# EAGLE library part SM200 (library 0_jc-custom-eagle6)
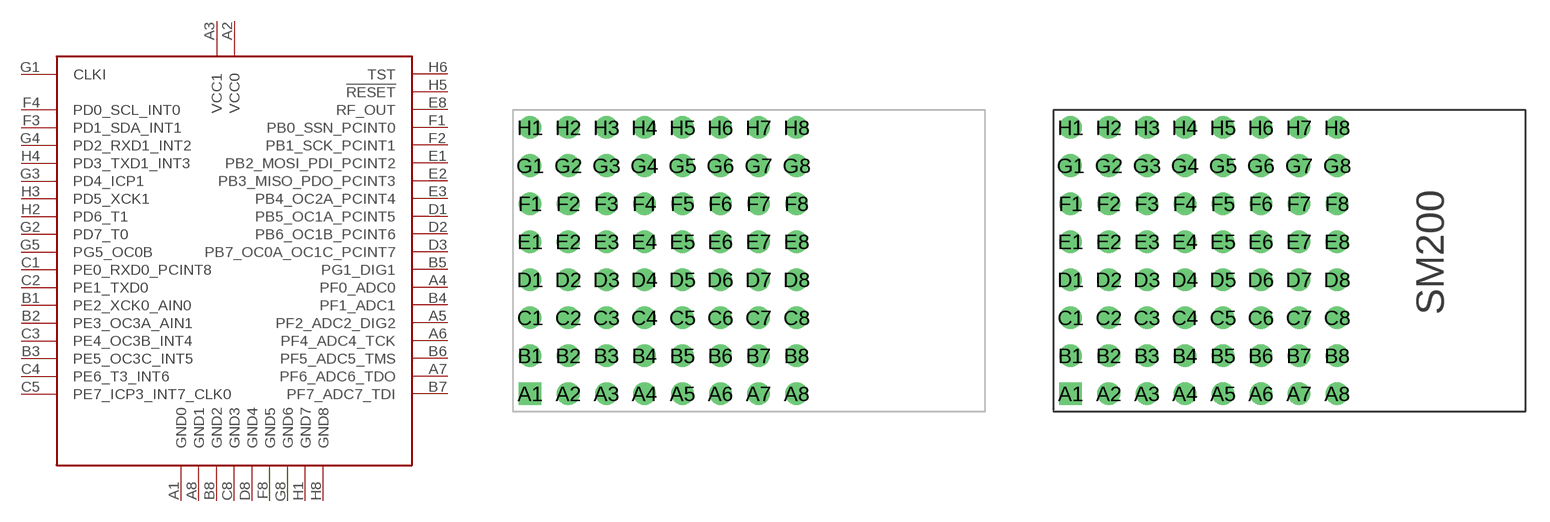
[diagram p27: symbol with the pads of SM200; footprints SM200, SM200-SILK]

Designator prefix -

## SM200P81  [SM200]
A1  GND0
A2  VCC0
A3  VCC1
A4  PF0_ADC0
A5  PF2_ADC2_DIG2
A6  PF4_ADC4_TCK
A7  PF6_ADC6_TDO
A8  GND1
B1  PE2_XCK0_AIN0
B2  PE3_OC3A_AIN1
B3  PE5_OC3C_INT5
B4  PF1_ADC1
B5  PG1_DIG1
B6  PF5_ADC5_TMS
B7  PF7_ADC7_TDI
B8  GND2
C1  PE0_RXD0_PCINT8
C2  PE1_TXD0
C3  PE4_OC3B_INT4
C4  PE6_T3_INT6
C5  PE7_ICP3_INT7_CLK0
C8  GND3
D1  PB5_OC1A_PCINT5
D2  PB6_OC1B_PCINT6
D3  PB7_OC0A_OC1C_PCINT7
D8  GND4
E1  PB2_MOSI_PDI_PCINT2
E2  PB3_MISO_PDO_PCINT3
E3  PB4_OC2A_PCINT4
E8  RF_OUT
F1  PB0_SSN_PCINT0
F2  PB1_SCK_PCINT1
F3  PD1_SDA_INT1
F4  PD0_SCL_INT0
F8  GND5
G1  CLKI
G2  PD7_T0
G3  PD4_ICP1
G4  PD2_RXD1_INT2
G5  PG5_OC0B
G8  GND6
H1  GND7
H2  PD6_T1
H3  PD5_XCK1
H4  PD3_TXD1_INT3
H5  !RESET
H6  TST
H8  GND8

## SM200TH-SILK  [SM200-SILK]
Pads as for SM200

## Footprint SM200 (pad centres in mm)
drill 0.8 pad 1.422 square: A1 1.1,1.1
drill 0.8 pad 1.422: A2 3.5,1.1; A3 5.9,1.1; A4 8.3,1.1; A5 10.7,1.1; A6 13.1,1.1; A7 15.5,1.1; A8 17.9,1.1; B1 1.1,3.5; B2 3.5,3.5; B3 5.9,3.5; B4 8.3,3.5; B5 10.7,3.5; B6 13.1,3.5; B7 15.5,3.5; B8 17.9,3.5; C1 1.1,5.9; C2 3.5,5.9; C3 5.9,5.9; C4 8.3,5.9; C5 10.7,5.9; C6 13.1,5.9; C7 15.5,5.9; C8 17.9,5.9; D1 1.1,8.3; D2 3.5,8.3; D3 5.9,8.3; D4 8.3,8.3; D5 10.7,8.3; D6 13.1,8.3; D7 15.5,8.3; D8 17.9,8.3; E1 1.1,10.7; E2 3.5,10.7; E3 5.9,10.7; E4 8.3,10.7; E5 10.7,10.7; E6 13.1,10.7; E7 15.5,10.7; E8 17.9,10.7; F1 1.1,13.1; F2 3.5,13.1; F3 5.9,13.1; F4 8.3,13.1; F5 10.7,13.1; F6 13.1,13.1; F7 15.5,13.1; F8 17.9,13.1; G1 1.1,15.5; G2 3.5,15.5; G3 5.9,15.5; G4 8.3,15.5; G5 10.7,15.5; G6 13.1,15.5; G7 15.5,15.5; G8 17.9,15.5; H1 1.1,17.9; H2 3.5,17.9; H3 5.9,17.9; H4 8.3,17.9; H5 10.7,17.9; H6 13.1,17.9; H7 15.5,17.9; H8 17.9,17.9

## Footprint SM200-SILK (pad centres in mm)
drill 0.8 pad 1.422 square: A1 1.1,1.1
drill 0.8 pad 1.422: A2 3.5,1.1; A3 5.9,1.1; A4 8.3,1.1; A5 10.7,1.1; A6 13.1,1.1; A7 15.5,1.1; A8 17.9,1.1; B1 1.1,3.5; B2 3.5,3.5; B3 5.9,3.5; B4 8.3,3.5; B5 10.7,3.5; B6 13.1,3.5; B7 15.5,3.5; B8 17.9,3.5; C1 1.1,5.9; C2 3.5,5.9; C3 5.9,5.9; C4 8.3,5.9; C5 10.7,5.9; C6 13.1,5.9; C7 15.5,5.9; C8 17.9,5.9; D1 1.1,8.3; D2 3.5,8.3; D3 5.9,8.3; D4 8.3,8.3; D5 10.7,8.3; D6 13.1,8.3; D7 15.5,8.3; D8 17.9,8.3; E1 1.1,10.7; E2 3.5,10.7; E3 5.9,10.7; E4 8.3,10.7; E5 10.7,10.7; E6 13.1,10.7; E7 15.5,10.7; E8 17.9,10.7; F1 1.1,13.1; F2 3.5,13.1; F3 5.9,13.1; F4 8.3,13.1; F5 10.7,13.1; F6 13.1,13.1; F7 15.5,13.1; F8 17.9,13.1; G1 1.1,15.5; G2 3.5,15.5; G3 5.9,15.5; G4 8.3,15.5; G5 10.7,15.5; G6 13.1,15.5; G7 15.5,15.5; G8 17.9,15.5; H1 1.1,17.9; H2 3.5,17.9; H3 5.9,17.9; H4 8.3,17.9; H5 10.7,17.9; H6 13.1,17.9; H7 15.5,17.9; H8 17.9,17.9